# Altium footprint library Inductors.PcbLib: 17 footprints (part 2 of 2)
Each footprint in its own frame and in the unit in brackets; x right, y up, seen from the top. Pads: shape width x height; smd on the part's side, far side on the other; paste and mask are expansions set on the pad; w line width, h text height; cw(c..) or ccw(c..) is an arc to the next point about the centre after c.
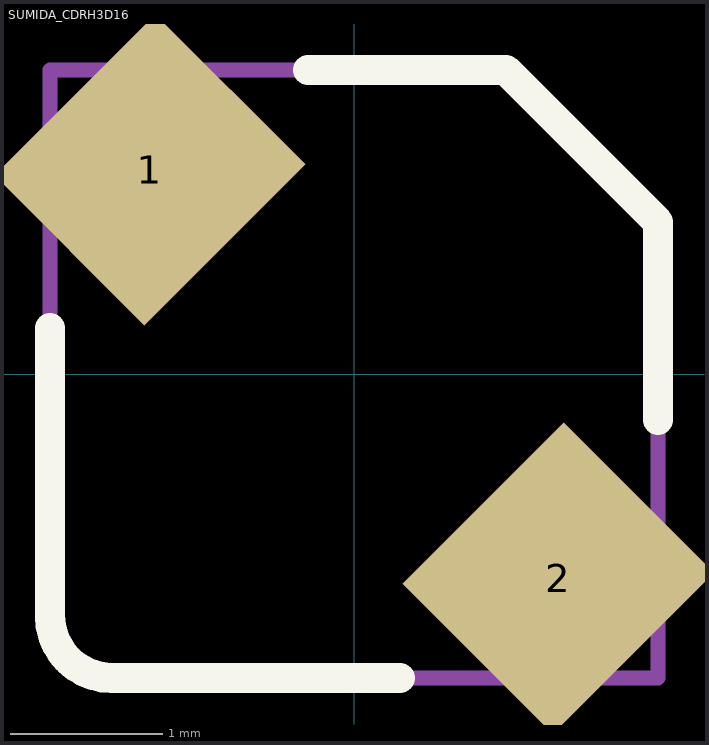
[diagram p1: the footprint, top view; thin cyan lines are the x and y axes]

## SUMIDA_CDRH3D16 [mm] "Sumida inductor package"
pads (2):
  rect 1.4x1.5 smd rot 135: 1(-1.344,1.344) 2(1.344,-1.344)
Top Overlay:
  lines w0.2: -2,0.3 -2,-1.594 ccw(c-1.594,-1.594) -1.594,-2 0.3,-2 ; -0.3,2 1,2 2,1 2,-0.3
15. Courtyard TOP:
  lines w0.1: -2,-1.594 ccw(c-1.594,-1.594) -1.594,-2 2,-2 2,1 1,2 -2,2 -2,-1.594
  text ".Designator" at -1.25,-0.5 h0.7
  text "." at -1.6,1.4 h1
3D body: height 1.6, standoff 0, extent -2,-2 2,2
3D body: height 1.6, standoff 0, extent -1.996,-1.999 -1,-1.001
3D body: height 1.8, standoff 0, extent -1.389,-1.397 1.4,1.397
3D body: height 1.5, standoff 0, extent 0.75,-2 2,-0.75
3D body: height 1.5, standoff 0, extent -2,0.75 -0.75,2